# Altium schematic symbol library Silicon Labs.SchLib: 25 symbols
Pins are listed as number, name and electrical type; pins without a type are passive.

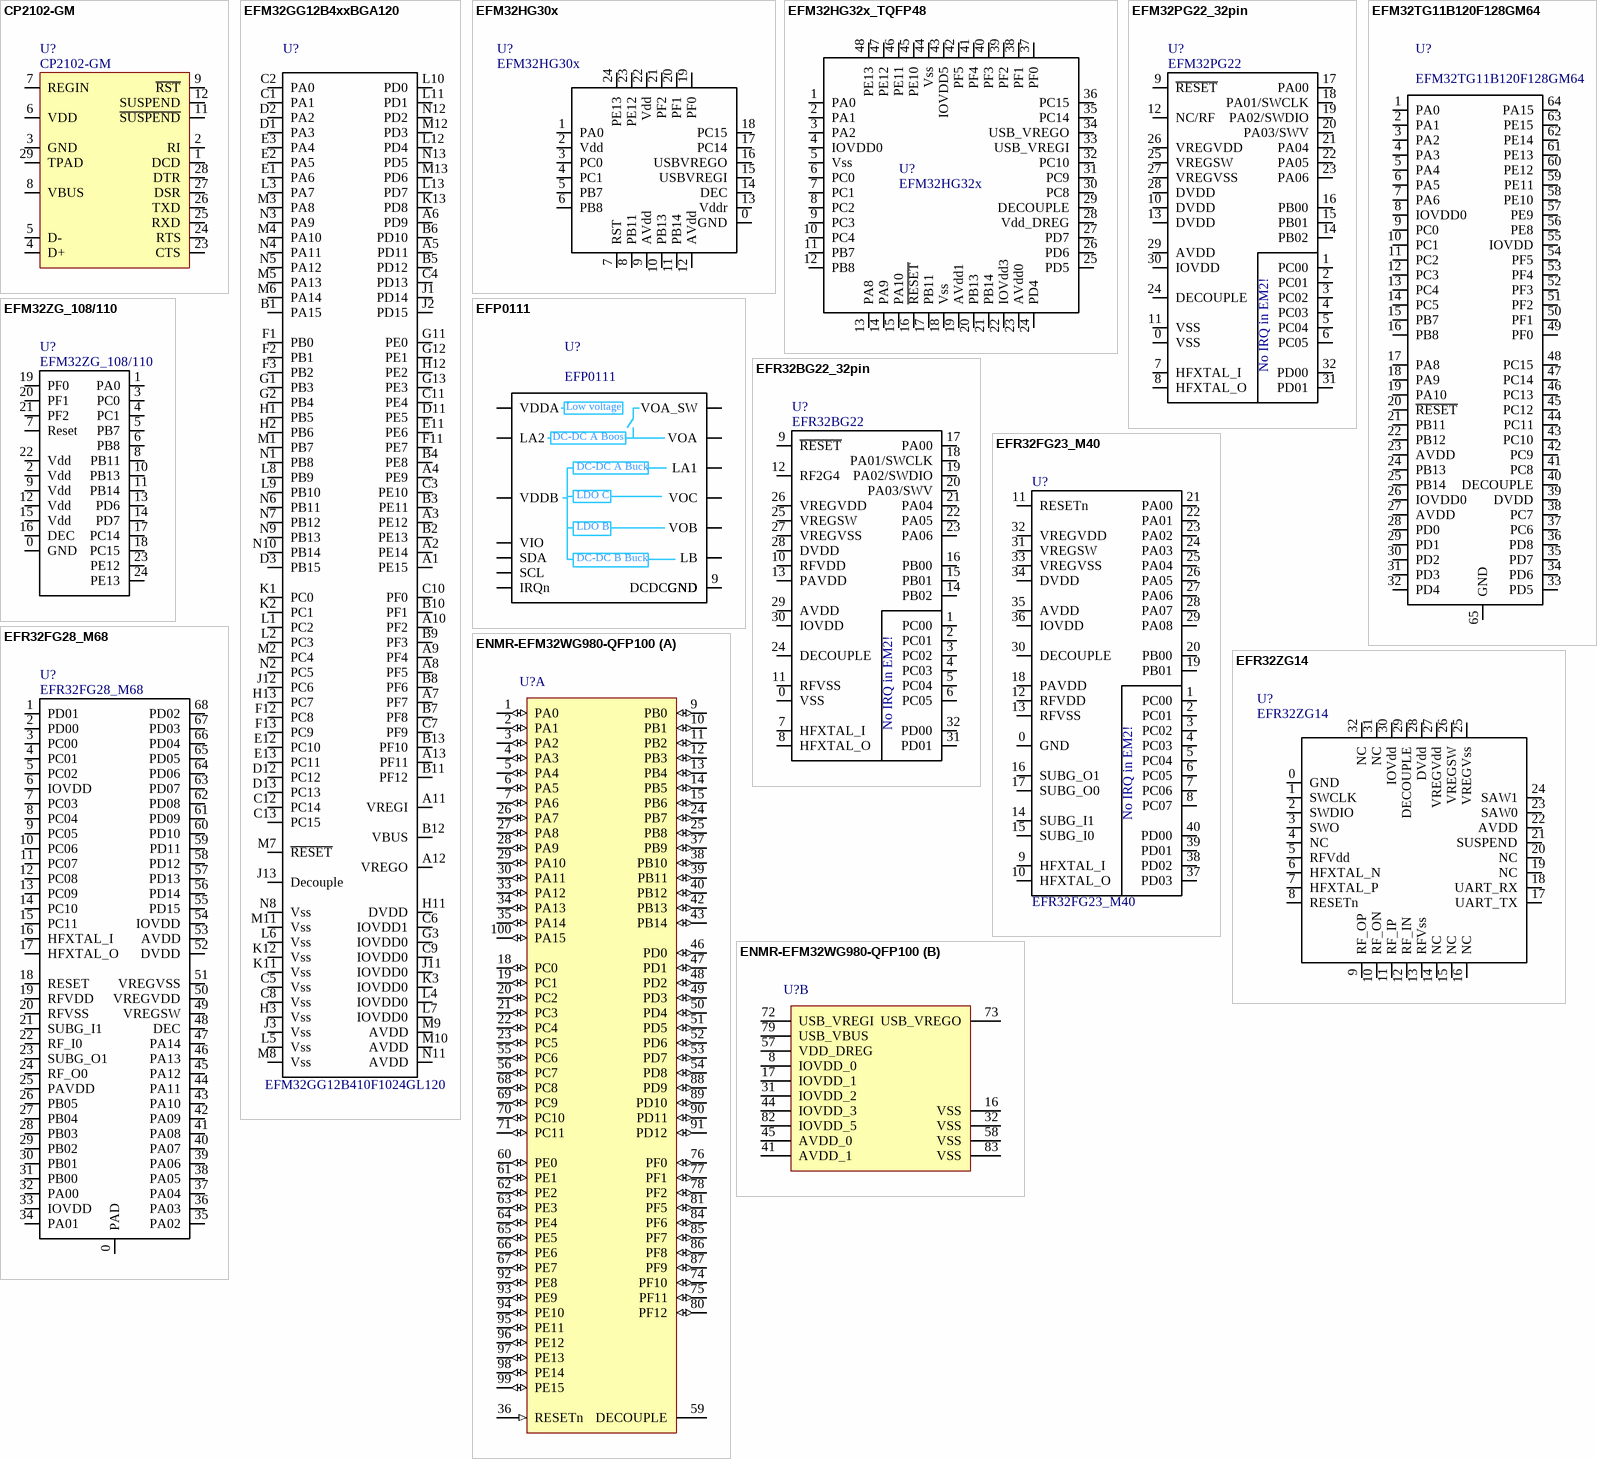
[diagram p0: symbols CP2102-GM to ENMR-EFM32WG980-QFP100]

## CP2102-GM
designator U?
SILICON LABORATORIES - CP2102-GM - USB-TO-UART BRIDGE, 3.6V, MLP-28; Catalog: Farnell; Catalog number: 9282130; Value: CP2102-GM; Price: 1,96
footprint QFN_28_050
pins: 1 DCD, 2 RI, 3 GND, 4 D+, 5 D-, 6 VDD, 7 REGIN, 8 VBUS, 9 ~{RST}, 10 NC hidden, 11 ~{SUSPEND}, 12 SUSPEND, 13 NC hidden, 14 NC hidden, 15 NC hidden, 16 NC hidden, 17 NC hidden, 18 NC hidden, 19 NC hidden, 20 NC hidden, 21 NC hidden, 22 NC hidden, 23 CTS, 24 RTS, 25 RXD, 26 TXD, 27 DSR, 28 DTR, 29 TPAD

## EFM32GG12B4xxBGA120
designator U?, comment Part Number: EFM32GG12B410F1024GL120  (hidden comment: ARM Cortex-M4 microcontroller EFM32GG12B410F1024GL120)
Manufacturer: Silicon Labs; Price 1: 4; Price 100: 4; Price 1000: 4
footprint BGA120
pins: A1 PE15, A2 PE14, A3 PE12, A4 PE9, A5 PD11, A6 PD9, A7 PF7, A8 PF5, A9 PF4, A10 PF2, A11 VREGI, A12 VREGO, A13 PF11, B1 PA15, B2 PE13, B3 PE11, B4 PE8, B5 PD12, B6 PD10, B7 PF8, B8 PF6, B9 PF3, B10 PF1, B11 PF12, B12 VBUS, B13 PF10, C1 PA1, C2 PA0, C3 PE10, C4 PD13, C5 Vss, C6 IOVDD1, C7 PF9, C8 Vss, C9 IOVDD0, C10 PF0, C11 PE4, C12 PC14, C13 PC15, D1 PA3, D2 PA2, D3 PB15, D11 PE5, D12 PC12, D13 PC13, E1 PA6, E2 PA5, E3 PA4, E11 PE6, E12 PC10, E13 PC11, F1 PB0, F2 PB1, F3 PB2, F11 PE7, F12 PC8, F13 PC9, G1 PB3, G2 PB4, G3 IOVDD0, G11 PE0, G12 PE1, G13 PE3, H1 PB5, H2 PB6, H3 Vss, H11 DVDD, H12 PE2, H13 PC7, J1 PD14, J2 PD15, J3 Vss, J11 IOVDD0, J12 PC6, J13 Decouple, K1 PC0, K2 PC1, K3 IOVDD0, K11 Vss, K12 Vss, K13 PD8, L1 PC2, L2 PC3, L3 PA7, L4 IOVDD0, L5 Vss, L6 Vss, L7 IOVDD0, L8 PB9, L9 PB10, L10 PD0, L11 PD1, L12 PD4, L13 PD7, M1 PB7, M2 PC4, M3 PA8, M4 PA10, M5 PA13, M6 PA14, M7 ~{RESET}, M8 Vss, M9 AVDD, M10 AVDD, M11 Vss, M12 PD3, M13 PD6, N1 PB8, N2 PC5, N3 PA9, N4 PA11, N5 PA12, N6 PB11, N7 PB12, N8 Vss, N9 PB13, N10 PB14, N11 AVDD, N12 PD2, N13 PD5

## EFM32HG30x
designator U?, comment value EFM32HG30x  (hidden comment: EFM32HG30x, 32-bit MCU)
Manufacturer: Silicon Labs; Part Number: EFM32HG30x; Price 1: 1.75; Price 100: 1.45; Price 1000: 1.31
footprint SLAB-QFN24-ZG
pins: 0 GND, 1 PA0, 2 Vdd, 3 PC0, 4 PC1, 5 PB7, 6 PB8, 7 RST, 8 PB11, 9 AVdd, 10 PB13, 11 PB14, 12 AVdd, 13 Vddr, 14 DEC, 15 USBVREGI, 16 USBVREGO, 17 PC14, 18 PC15, 19 PF0, 20 PF1, 21 PF2, 22 Vdd, 23 PE12, 24 PE13

## EFM32HG32x_TQFP48
designator U?, comment EFM32HG32x
Manufacturer: Silicon Labs; Part Number: EFM32HG32x
footprint SILABS_TQFP48
pins: 1 PA0, 2 PA1, 3 PA2, 4 IOVDD0, 5 Vss, 6 PC0, 7 PC1, 8 PC2, 9 PC3, 10 PC4, 11 PB7, 12 PB8, 13 PA8, 14 PA9, 15 PA10, 16 ~{RESET}, 17 PB11, 18 Vss, 19 AVdd1, 20 PB13, 21 PB14, 22 IOVdd3, 23 AVdd0, 24 PD4, 25 PD5, 26 PD6, 27 PD7, 28 Vdd_DREG, 29 DECOUPLE, 30 PC8, 31 PC9, 32 PC10, 33 USB_VREGI, 34 USB_VREGO, 35 PC14, 36 PC15, 37 PF0, 38 PF1, 39 PF2, 40 PF3, 41 PF4, 42 PF5, 43 IOVDD5, 44 Vss, 45 PE10, 46 PE11, 47 PE12, 48 PE13

## EFM32PG22_32pin
designator U?, comment EFM32PG22
Manufacturer: Silicon Labs; Part Number: EFM32PG22
footprint QFN32_0.4p
pins: 0 VSS, 1 PC00, 2 PC01, 3 PC02, 4 PC03, 5 PC04, 6 PC05, 7 HFXTAL_I, 8 HFXTAL_O, 9 ~{RESET}, 10 DVDD, 11 VSS, 12 NC/RF, 13 DVDD, 14 PB02, 15 PB01, 16 PB00, 17 PA00, 18 PA01/SWCLK, 19 PA02/SWDIO, 20 PA03/SWV, 21 PA04, 22 PA05, 23 PA06, 24 DECOUPLE, 25 VREGSW, 26 VREGVDD, 27 VREGVSS, 28 DVDD, 29 AVDD, 30 IOVDD, 31 PD01, 32 PD00
text: No IRQ in EM2!

## EFM32TG11B120F128GM64
designator U?
Manufacturer: Silicon Labs; Part Number: EFM32TG11B120F128GM64
footprint SILABS_QFN64_0.25 (QFN, 64-Leads, Body 9x9mm, Pitch 0.5mm, Thermal Pad 7.3x7.3mm)
pins: 1 PA0, 2 PA1, 3 PA2, 4 PA3, 5 PA4, 6 PA5, 7 PA6, 8 IOVDD0, 9 PC0, 10 PC1, 11 PC2, 12 PC3, 13 PC4, 14 PC5, 15 PB7, 16 PB8, 17 PA8, 18 PA9, 19 PA10, 20 ~{RESET}, 21 PB11, 22 PB12, 23 AVDD, 24 PB13, 25 PB14, 26 IOVDD0, 27 AVDD, 28 PD0, 29 PD1, 30 PD2, 31 PD3, 32 PD4, 33 PD5, 34 PD6, 35 PD7, 36 PD8, 37 PC6, 38 PC7, 39 DVDD, 40 DECOUPLE, 41 PC8, 42 PC9, 43 PC10, 44 PC11, 45 PC12, 46 PC13, 47 PC14, 48 PC15, 49 PF0, 50 PF1, 51 PF2, 52 PF3, 53 PF4, 54 PF5, 55 IOVDD, 56 PE8, 57 PE9, 58 PE10, 59 PE11, 60 PE12, 61 PE13, 62 PE14, 63 PE15, 64 PA15, 65 GND

## EFM32ZG_108/110
designator U?
footprint SLAB-QFN24-ZG
pins: 0 GND, 1 PA0, 2 Vdd, 3 PC0, 4 PC1, 5 PB7, 6 PB8, 7 Reset, 8 PB11, 9 Vdd, 10 PB13, 11 PB14, 12 Vdd, 13 PD6, 14 PD7, 15 Vdd, 16 DEC, 17 PC14, 18 PC15, 19 PF0, 20 PF1, 21 PF2, 22 Vdd, 23 PE12, 24 PE13

## EFP0111
designator U?
EFP0111, battery management IC; Manufacturer: Silicon Labs; Part Number: EFP0111GM20-D; Price 1: 0.82; Price 100: 0.69; Price 1000: 0.67
footprint QFN20_EFP0111
pins: 1 GND, 2 GND, 3 VDDA, 4 VOB, 5 LB, 6 GND, 7 LA1, 8 VDDB, 9 DCDCGND, 10 VOA, 11 LA2, 12 VOA_SW, 13 VOC, 14 VIO, 15 SCL, 16 GND, 17 SDA, 18 IRQn, 19 GND, 20 GND, 21 GND
text: Low voltage; DC-DC A Boost; DC-DC A Buck; LDO C; LDO B; DC-DC B Buck

## EFR32BG22_32pin
designator U?, comment EFR32BG22
Manufacturer: Silicon Labs; Part Number: EFR32BG22
footprint QFN32_0.4p
pins: 0 VSS, 1 PC00, 2 PC01, 3 PC02, 4 PC03, 5 PC04, 6 PC05, 7 HFXTAL_I, 8 HFXTAL_O, 9 ~{RESET}, 10 RFVDD, 11 RFVSS, 12 RF2G4, 13 PAVDD, 14 PB02, 15 PB01, 16 PB00, 17 PA00, 18 PA01/SWCLK, 19 PA02/SWDIO, 20 PA03/SWV, 21 PA04, 22 PA05, 23 PA06, 24 DECOUPLE, 25 VREGSW, 26 VREGVDD, 27 VREGVSS, 28 DVDD, 29 AVDD, 30 IOVDD, 31 PD01, 32 PD00
text: No IRQ in EM2!

## EFR32FG23_M40
designator U?, comment Part Number: EFR32FG23_M40  (hidden comment: EFR32FG23_M40 ARM Cortex-M33F + Sub-GHz RF IC)
Manufacturer: Silicon Labs; Price 1: *; Price 100: *; Price 1000: *
footprint SILABS_QFN40_0.4pitch (QFN40, 0.4mm pitch)
pins: 0 GND, 1 PC00, 2 PC01, 3 PC02, 4 PC03, 5 PC04, 6 PC05, 7 PC06, 8 PC07, 9 HFXTAL_I, 10 HFXTAL_O, 11 RESETn, 12 RFVDD, 13 RFVSS, 14 SUBG_I1, 15 SUBG_I0, 16 SUBG_O1, 17 SUBG_O0, 18 PAVDD, 19 PB01, 20 PB00, 21 PA00, 22 PA01, 23 PA02, 24 PA03, 25 PA04, 26 PA05, 27 PA06, 28 PA07, 29 PA08, 30 DECOUPLE, 31 VREGSW, 32 VREGVDD, 33 VREGVSS, 34 DVDD, 35 AVDD, 36 IOVDD, 37 PD03, 38 PD02, 39 PD01, 40 PD00
text: No IRQ in EM2!

## EFR32FG28_M68
designator U?, comment Part Number: EFR32FG28_M68  (hidden comment: EFR32FG28 Sub-GHz Wireless + 2.4 GHz BLE SoC)
Manufacturer: Silicon Labs; Price 1: 10; Price 100: 8; Price 1000: 6
footprint SILABS_QFN68_p0.4 (SILABS QFN68 with 0.4mm pitch)
pins: 0 PAD, 1 PD01, 2 PD00, 3 PC00, 4 PC01, 5 PC02, 6 IOVDD, 7 PC03, 8 PC04, 9 PC05, 10 PC06, 11 PC07, 12 PC08, 13 PC09, 14 PC10, 15 PC11, 16 HFXTAL_I, 17 HFXTAL_O, 18 RESET, 19 RFVDD, 20 RFVSS, 21 SUBG_I1, 22 RF_I0, 23 SUBG_O1, 24 RF_O0, 25 PAVDD, 26 PB05, 27 PB04, 28 PB03, 29 PB02, 30 PB01, 31 PB00, 32 PA00, 33 IOVDD, 34 PA01, 35 PA02, 36 PA03, 37 PA04, 38 PA05, 39 PA06, 40 PA07, 41 PA08, 42 PA09, 43 PA10, 44 PA11, 45 PA12, 46 PA13, 47 PA14, 48 DEC, 49 VREGSW, 50 VREGVDD, 51 VREGVSS, 52 DVDD, 53 AVDD, 54 IOVDD, 55 PD15, 56 PD14, 57 PD13, 58 PD12, 59 PD11, 60 PD10, 61 PD09, 62 PD08, 63 PD07, 64 PD06, 65 PD05, 66 PD04, 67 PD03, 68 PD02

## EFR32ZG14
designator U?
Manufacturer: Silicon Labs; Part Number: EFR32ZG14P231F256GM32
footprint QFN_32_EFR32ZG14 (QFN, 32-Leads, Body 5,0x5,0mm (max), Pitch 0,50mm)
pins: 0 GND, 1 SWCLK, 2 SWDIO, 3 SWO, 4 NC, 5 RFVdd, 6 HFXTAL_N, 7 HFXTAL_P, 8 RESETn, 9 RF_OP, 10 RF_ON, 11 RF_IP, 12 RF_IN, 13 RFVss, 14 NC, 15 NC, 16 NC, 17 UART_TX, 18 UART_RX, 19 NC, 20 NC, 21 SUSPEND, 22 AVDD, 23 SAW0, 24 SAW1, 25 VREGVss, 26 VREGSW, 27 VREGVdd, 28 DVdd, 29 DECOUPLE, 30 IOVdd, 31 NC, 32 NC

## ENMR-EFM32WG980-QFP100
designator U?
footprint ENMR-LQFP100_L (LQFP, 100-Leads, Body 14x14mm, Pitch 0.5mm, IPC High Density)
part A pins: 1 PA0 (io) "LCD_SEG13, EBI_AD09#0/1/2, TIM0_CC0#0/1/4, LEU0_RX#4, I2C0_SDA#0, PRS_CH0#0, GPIO_EM4WU0", 2 PA1 (io) "LCD_SEG14, EBI_AD10#0/1/2, TIM0_CC1#0/1, I2C0_SCL#0, CMU_CLK1#0, PRS_CH1#0", 3 PA2 (io) "LCD_SEG15, EBI_AD11#0/1/2, TIM0_CC2#0/1, CMU_CLK0#0, ETM_TD0#3", 4 PA3 (io) "LCD_SEG16, EBI_AD12#0/1/2, TIM0_CDTI0#0, U0_TX#2, LES_ALTEX2#0, ETM_TD1#3", 5 PA4 (io) "LCD_SEG17, EBI_AD13#0/1/2, TIM0_CDTI1#0, U0_RX#2, LES_ALTEX3#0, ETM_TD2#3", 6 PA5 (io) "LCD_SEG18, EBI_AD14#0/1/2, TIM0_CDTI2#0, LEU1_TX#1, LES_ALTEX4#0, ETM_TD3#3", 7 PA6 (io) "LCD_SEG19, EBI_AD15#0/1/2, LEU1_RX#1, ETM_TCLK#3, GPIO_EM4WU1", 9 PB0 (io) "LCD_SEG32, EBI_A16#0/1/2, TIM1_CC0#2", 10 PB1 (io) "LCD_SEG33, EBI_A17#0/1/2, TIM1_CC1#2", 11 PB2 (io) "LCD_SEG34, EBI_A18#0/1/2, TIM1_CC2#2", 12 PB3 (io) "LCD_SEG20/LCD_COM4, EBI_A19#0/1/2, PCNT1_S0IN#1, US2_TX#1", 13 PB4 (io) "LCD_SEG21/LCD_COM5, EBI_A20#0/1/2, PCNT1_S1IN#1, US2_RX#1", 14 PB5 (io) "LCD_SEG22/LCD_COM6, EBI_A21#0/1/2, US2_CLK#1", 15 PB6 (io) "LCD_SEG23/LCD_COM7, EBI_A22#0/1/2, US2_CS#1", 18 PC0 (io) "DAC0_OUT0ALT#0/OPAMP_OUT0ALT, ACMP0_CH0, EBI_A23#0/1/2, TIM0_CC1#4, PCNT0_S0IN#2, US0_TX#5, US1_TX#0, I2C0_SDA#4, LES_CH0#0, PRS_CH2#0", 19 PC1 (io) "DAC0_OUT0ALT#1/OPAMP_OUT0ALT, ACMP0_CH1, EBI_A24#0/1/2, TIM0_CC2#4, PCNT0_S1IN#2, US0_RX#5, US1_RX#0, I2C0_SCL#4, LES_CH1#0, PRS_CH3#0", 20 PC2 (io) "DAC0_OUT0ALT#2/OPAMP_OUT0ALT, ACMP0_CH2, EBI_A25#0/1/2, TIM0_CDTI0#4, US2_TX#0, LES_CH2#0", 21 PC3 (io) "DAC0_OUT0ALT#3/OPAMP_OUT0ALT, ACMP0_CH3, EBI_NANDREn#0/1/2, TIM0_CDTI1#4, US2_RX#0, LES_CH3#0", 22 PC4 (io) "DAC0_P0#0/OPAMP_P0, ACMP0_CH4, EBI_A26#0/1/2, TIM0_CDTI2#4, LETIM0_OUT0#3, PCNT1_S0IN#0, US2_CLK#0, I2C1_SDA#0, LES_CH4#0", 23 PC5 (io) "DAC0_N0#0/OPAMP_N0, ACMP0_CH5, EBI_NANDWEn#0/1/2, LETIM0_OUT1#3, PCNT1_S1IN#0, US2_CS#0, I2C1_SCL#0, LES_CH5#0", 24 PB7 (io) "LFXTAL_P, TIM1_CC0#3, US0_TX#4, US1_CLK#0", 25 PB8 (io) "LFXTAL_N, TIM1_CC1#3, US0_RX#4, US1_CS#0", 26 PA7 (io) "LCD_SEG35, EBI_CSTFT#0/1/2", 27 PA8 (io) "LCD_SEG36, EBI_DCLK#0/1/2, TIM2_CC0#0", 28 PA9 (io) "LCD_SEG37, EBI_DTEN#0/1/2, TIM2_CC1#0", 29 PA10 (io) "LCD_SEG38, EBI_VSNC#0/1/2, TIM2_CC2#0", 30 PA11 (io) "LCD_SEG39, EBI_HSNC#0/1/2", 33 PA12 (io) "LCD_BCAP_P, EBI_A00#0/1/2, TIM2_CC0#1", 34 PA13 (io) "LCD_BCAP_N, EBI_A01#0/1/2, TIM2_CC1#1", 35 PA14 (io) "LCD_BEXT, EBI_A02#0/1/2, TIM2_CC2#1", 36 RESETn (in) "Reset input. Active low, with internal pull-up.", 37 PB9 (io) "EBI_A03#0/1/2, U1_TX#2", 38 PB10 (io) "EBI_A04#0/1/2, U1_RX#2", 39 PB11 (io) "DAC0_OUT0#0/OPAMP_OUT0, TIM1_CC2#3, LETIM0_OUT0#1, I2C1_SDA#1", 40 PB12 (io) "DAC0_OUT1#0/OPAMP_OUT1, LETIM0_OUT1#1, I2C1_SCL#1", 42 PB13 (io) "HFXTAL_P, US0_CLK#4/5, LEU0_TX#1", 43 PB14 (io) "HFXTAL_N, US0_CS#4/5, LEU0_RX#1", 46 PD0 (io) "ADC0_CH0, DAC0_OUT0ALT#4/OPAMP_OUT0ALT, DAC0_OUT2#1/OPAMP_OUT2, PCNT2_S0IN#0, US1_TX#1", 47 PD1 (io) "ADC0_CH1, DAC0_OUT1ALT#4/OPAMP_OUT1ALT, TIM0_CC0#3, PCNT2_S1IN#0, US1_RX#1, DBG_SWO#2", 48 PD2 (io) "ADC0_CH2, EBI_A27#0/1/2, TIM0_CC1#3, US1_CLK#1, USB_DMPU#0, DBG_SWO#3", 49 PD3 (io) "ADC0_CH3, DAC0_N2#0/OPAMP_N2, TIM0_CC2#3, US1_CS#1, ETM_TD1#0/2", 50 PD4 (io) "ADC0_CH4, DAC0_P2#0/OPAMP_P2, LEU0_TX#0, ETM_TD2#0/2", 51 PD5 (io) "ADC0_CH5, DAC0_OUT2#0/OPAMP_OUT2, LEU0_RX#0, ETM_TD3#0/2", 52 PD6 (io) "ADC0_CH6, DAC0_P1#0/OPAMP_P1, TIM1_CC0#4, LETIM0_OUT0#0, PCNT0_S0IN#3, US1_RX#2, I2C0_SDA#1, LES_ALTEX0#0, ACMP0_O#2, ETM_TD0#0", 53 PD7 (io) "ADC0_CH7, DAC0_N1#0/OPAMP_N1, TIM1_CC1#4, LETIM0_OUT1#0, PCNT0_S1IN#3, US1_TX#2, I2C0_SCL#1, CMU_CLK0#2, LES_ALTEX1#0, ACMP1_O#2, ETM_TCLK#0", 54 PD8 (io) "BU_VIN, CMU_CLK1#1", 55 PC6 (io) "ACMP0_CH6, EBI_A05#0/1/2, LEU1_TX#0, I2C0_SDA#2, LES_CH6#0, ETM_TCLK#2", 56 PC7 (io) "ACMP0_CH7, EBI_A06#0/1/2, LEU1_RX#0, I2C0_SCL#2, LES_CH7#0, ETM_TD0#2", 59 DECOUPLE "Decouple output for on-chip voltage regulator. An external capacitance of size CDECOUPLE is required at this pin.", 60 PE0 (io) "EBI_A07#0/1/2, TIM3_CC0#1, PCNT0_S0IN#1, U0_TX#1, I2C1_SDA#2", 61 PE1 (io) "EBI_A08#0/1/2, TIM3_CC1#1, PCNT0_S1IN#1, U0_RX#1, I2C1_SCL#2", 62 PE2 (io) "BU_VOUT, EBI_A09#0, TIM3_CC2#1, U1_TX#3, ACMP0_O#1", 63 PE3 (io) "BU_STAT, EBI_A10#0, U1_RX#3, ACMP1_O#1", 64 PE4 (io) "LCD_COM0, EBI_A11#0/1/2, US0_CS#1", 65 PE5 (io) "LCD_COM1, EBI_A12#0/1/2, US0_CLK#1", 66 PE6 (io) "LCD_COM2, EBI_A13#0/1/2, US0_RX#1", 67 PE7 (io) "LCD_COM3, EBI_A14#0/1/2, US0_TX#1", 68 PC8 (io) "ACMP1_CH0, EBI_A15#0/1/2, TIM2_CC0#2, US0_CS#2, LES_CH8#0", 69 PC9 (io) "ACMP1_CH1, EBI_A09#1/2, TIM2_CC1#2, US0_CLK#2, LES_CH9#0, GPIO_EM4WU2", 70 PC10 (io) "ACMP1_CH2, EBI_A10#1/2, TIM2_CC2#2, US0_RX#2, LES_CH10#0", 71 PC11 (io) "ACMP1_CH3, EBI_ALE#1/2, US0_TX#2, LES_CH11#0", 74 PF10 (io) "U1_TX#1, USB_DM#0", 75 PF11 (io) "U1_RX#1, USB_DP#0", 76 PF0 (io) "TIM0_CC0#5, LETIM0_OUT0#2, US1_CLK#2, LEU0_TX#3, I2C0_SDA#5, DBG_SWCLK#0/1/2/", 77 PF1 (io) "TIM0_CC1#5, LETIM0_OUT1#2, US1_CS#2, LEU0_RX#3, I2C0_SCL#5, DBG_SWDIO#0/1/2/3, GPIO_EM4WU3", 78 PF2 (io) "LCD_SEG0, EBI_ARDY#0/1/2, TIM0_CC2#5, LEU0_TX#4, ACMP1_O#0, DBG_SWO#0, GPIO_EM4WU4", 80 PF12 (io) "USB_ID#0", 81 PF5 (io) "LCD_SEG3, EBI_REn#0/2, TIM0_CDTI2#2/5, USB_VBUSEN#0, PRS_CH2#1", 84 PF6 (io) "LCD_SEG24, EBI_BL0#0/1/2, TIM0_CC0#2, U0_TX#0", 85 PF7 (io) "LCD_SEG25, EBI_BL1#0/1/2, TIM0_CC1#2, U0_RX#0", 86 PF8 (io) "LCD_SEG26, EBI_WEn#1, TIM0_CC2#2, ETM_TCLK#1", 87 PF9 (io) "LCD_SEG27, EBI_REn#1, ETM_TD0#1", 88 PD9 (io) "LCD_SEG28, EBI_CS0#0/1/2", 89 PD10 (io) "LCD_SEG29, EBI_CS1#0/1/2", 90 PD11 (io) "LCD_SEG30, EBI_CS2#0/1/2", 91 PD12 (io) "LCD_SEG31, EBI_CS3#0/1/2", 92 PE8 (io) "LCD_SEG4, EBI_AD00#0/1/2, PCNT2_S0IN#1, PRS_CH3#1", 93 PE9 (io) "LCD_SEG5, EBI_AD01#0/1/2, PCNT2_S1IN#1", 94 PE10 (io) "LCD_SEG6, EBI_AD02#0/1/2, TIM1_CC0#1, US0_TX#0, BOOTLOADER_TX", 95 PE11 (io) "LCD_SEG7, EBI_AD03#0/1/2, TIM1_CC1#1, US0_RX#0, LES_ALTEX5#0, BOOTLOADER_RX", 96 PE12 (io) "LCD_SEG8, EBI_AD04#0/1/2, TIM1_CC2#1, US0_RX#3, US0_CLK#0, I2C0_SDA#6, CMU_CLK1#2, LES_ALTEX6#0", 97 PE13 (io) "LCD_SEG9, EBI_AD05#0/1/2, US0_TX#3, US0_CS#0, I2C0_SCL#6, LES_ALTEX7#0, ACMP0_O#0, GPIO_EM4WU5", 98 PE14 (io) "LCD_SEG10, EBI_AD06#0/1/2, TIM3_CC0#0, LEU0_TX#2", 99 PE15 (io) "LCD_SEG11, EBI_AD07#0/1/2, TIM3_CC1#0, LEU0_RX#2", 100 PA15 (io) "LCD_SEG12, EBI_AD08#0/1/2, TIM3_CC2#0"
part B pins: 8 IOVDD_0 (power) "Digital IO power supply 0.", 16 VSS (power) "Ground", 17 IOVDD_1 (power) "Digital IO power supply 1.", 31 IOVDD_2 (power) "Digital IO power supply 2.", 32 VSS (power) "Ground", 41 AVDD_1 (power) "Analog power supply 1 .", 44 IOVDD_3 (power) "Digital IO power supply 3.", 45 AVDD_0 (power) "Analog power supply 0.", 57 VDD_DREG (power) "Power supply for on-chip voltage regulator.", 58 VSS (power) "Ground", 72 USB_VREGI (power) "USB Input to internal 3.3 V regulator.", 73 USB_VREGO "USB Decoupling for internal 3.3 V USB regulator and regulator output.", 79 USB_VBUS (power) "USB 5.0 V VBUS input.", 82 IOVDD_5 (power) "Digital IO power supply 5.", 83 VSS (power) "Ground"

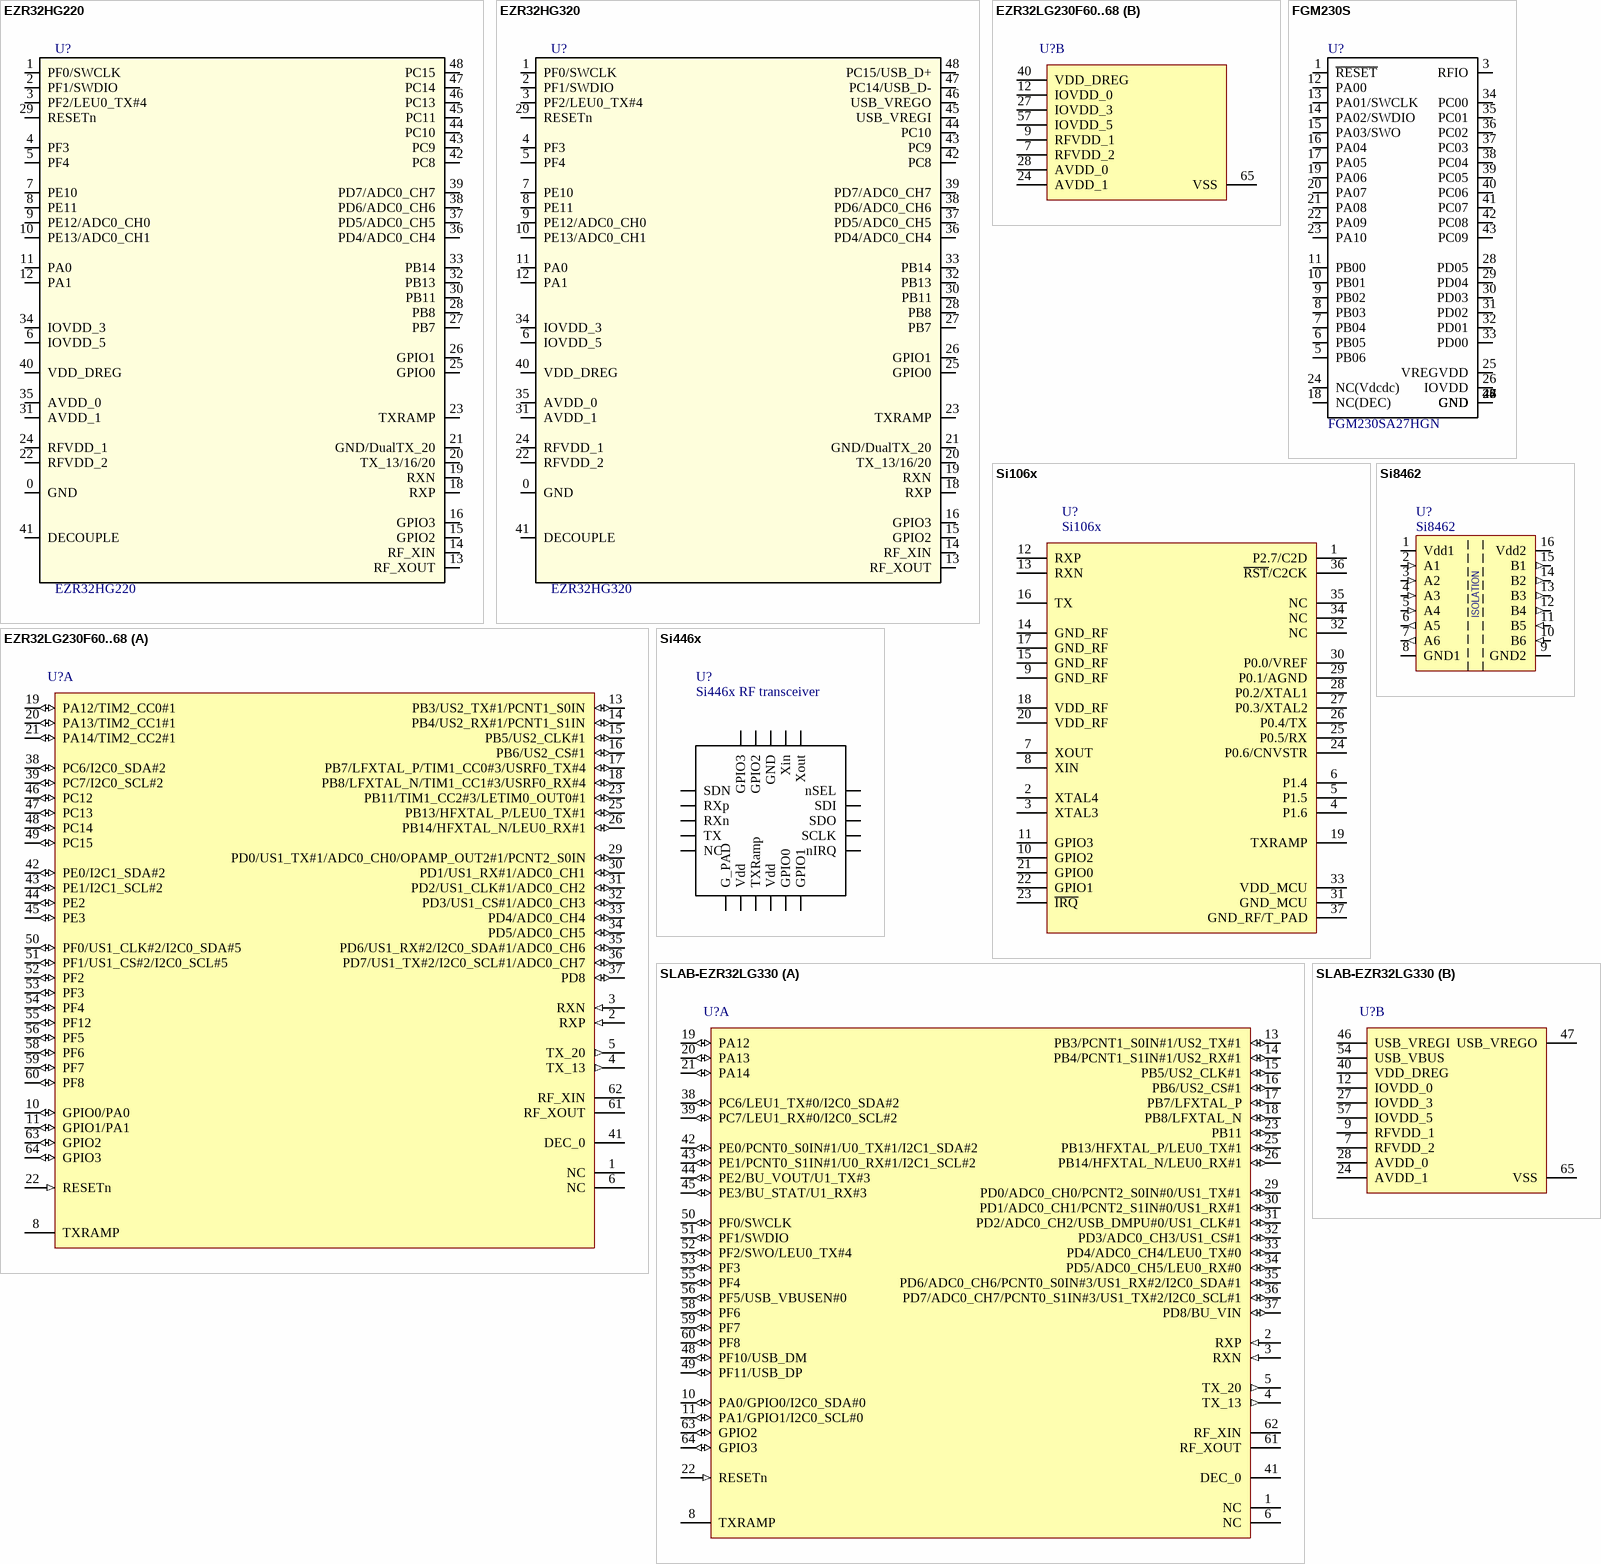
[diagram p1: symbols EZR32HG220 to SLAB-EZR32LG330]

## EZR32HG220
designator U?
footprint SILABS_QFN48_0.2
pins: 0 GND, 1 PF0/SWCLK, 2 PF1/SWDIO, 3 PF2/LEU0_TX#4, 4 PF3, 5 PF4, 6 IOVDD_5, 7 PE10, 8 PE11, 9 PE12/ADC0_CH0, 10 PE13/ADC0_CH1, 11 PA0, 12 PA1, 13 RF_XOUT, 14 RF_XIN, 15 GPIO2, 16 GPIO3, 17 DNC hidden, 18 RXP, 19 RXN, 20 TX_13/16/20, 21 GND/DualTX_20, 22 RFVDD_2, 23 TXRAMP, 24 RFVDD_1, 25 GPIO0, 26 GPIO1, 27 PB7, 28 PB8, 29 RESETn, 30 PB11, 31 AVDD_1, 32 PB13, 33 PB14, 34 IOVDD_3, 35 AVDD_0, 36 PD4/ADC0_CH4, 37 PD5/ADC0_CH5, 38 PD6/ADC0_CH6, 39 PD7/ADC0_CH7, 40 VDD_DREG, 41 DECOUPLE, 42 PC8, 43 PC9, 44 PC10, 45 PC11, 46 PC13, 47 PC14, 48 PC15

## EZR32HG320
designator U?
footprint SILABS_QFN48_0.2
pins: 0 GND, 1 PF0/SWCLK, 2 PF1/SWDIO, 3 PF2/LEU0_TX#4, 4 PF3, 5 PF4, 6 IOVDD_5, 7 PE10, 8 PE11, 9 PE12/ADC0_CH0, 10 PE13/ADC0_CH1, 11 PA0, 12 PA1, 13 RF_XOUT, 14 RF_XIN, 15 GPIO2, 16 GPIO3, 17 DNC hidden, 18 RXP, 19 RXN, 20 TX_13/16/20, 21 GND/DualTX_20, 22 RFVDD_2, 23 TXRAMP, 24 RFVDD_1, 25 GPIO0, 26 GPIO1, 27 PB7, 28 PB8, 29 RESETn, 30 PB11, 31 AVDD_1, 32 PB13, 33 PB14, 34 IOVDD_3, 35 AVDD_0, 36 PD4/ADC0_CH4, 37 PD5/ADC0_CH5, 38 PD6/ADC0_CH6, 39 PD7/ADC0_CH7, 40 VDD_DREG, 41 DECOUPLE, 42 PC8, 43 PC9, 44 PC10, 45 USB_VREGI, 46 USB_VREGO, 47 PC14/USB_D-, 48 PC15/USB_D+

## EZR32LG230F60..68
designator U?
footprint SLAB-QFN-64_V - MODIFIED (QFN, 64-Leads, Body 9.1x9.1mm, Pitch 0.5mm, Thermal Pad 7.55x7.55mm)
part A pins: 1 NC "No connect.", 2 RXP (in) "Differential RF Input Pin of the LNA. See application schematic for example matching network.", 3 RXN (in) "Differential RF Input Pin of the LNA. See application schematic for example matching network.", 4 TX_13 (out) "Transmit Output Pin (+13 dBm or +16 dBm) for R55, R60, R61, R67 and R69 variants. The PA output is an open-drain connection, so the L-C match must supply VDD (+3.3 VDC nominal) to this pin. Pin is DNC on the +20 dBm parts.", 5 TX_20 (out) "Transmit Output Pin (+20 dBm) for R63, R68 and R69 variants. The PA output is an open-drain connection,so the L-C match must supply VDD (+3.3 VDC nominal) to this pin. Pin is DNC on the +13 dBm parts.", 6 NC "No connect.", 8 TXRAMP "Programmable Bias Output with Ramp Capability for External FET PA.", 10 GPIO0/PA0 (io), 11 GPIO1/PA1 (io), 13 PB3/US2_TX#1/PCNT1_S0IN (io), 14 PB4/US2_RX#1/PCNT1_S1IN (io), 15 PB5/US2_CLK#1 (io), 16 PB6/US2_CS#1 (io), 17 PB7/LFXTAL_P/TIM1_CC0#3/USRF0_TX#4 (io), 18 PB8/LFXTAL_N/TIM1_CC1#3/USRF0_RX#4 (io), 19 PA12/TIM2_CC0#1 (io), 20 PA13/TIM2_CC1#1 (io), 21 PA14/TIM2_CC2#1 (io), 22 RESETn (in) "Reset input, active low.To apply an external reset source to this pin, it is required to only drive this pin low during reset, and let the internal pull-up ensure that reset is released.", 23 PB11/TIM1_CC2#3/LETIM0_OUT0#1 (io), 25 PB13/HFXTAL_P/LEU0_TX#1 (io), 26 PB14/HFXTAL_N/LEU0_RX#1 (io), 29 PD0/US1_TX#1/ADC0_CH0/OPAMP_OUT2#1/PCNT2_S0IN (io), 30 PD1/US1_RX#1/ADC0_CH1 (io), 31 PD2/US1_CLK#1/ADC0_CH2 (io), 32 PD3/US1_CS#1/ADC0_CH3 (io), 33 PD4/ADC0_CH4 (io), 34 PD5/ADC0_CH5 (io), 35 PD6/US1_RX#2/I2C0_SDA#1/ADC0_CH6 (io), 36 PD7/US1_TX#2/I2C0_SCL#1/ADC0_CH7 (io), 37 PD8 (io), 38 PC6/I2C0_SDA#2 (io), 39 PC7/I2C0_SCL#2 (io), 41 DEC_0 (power) "Decouple output for on-chip voltage regulator.", 42 PE0/I2C1_SDA#2 (io), 43 PE1/I2C1_SCL#2 (io), 44 PE2 (io), 45 PE3 (io), 46 PC12 (io), 47 PC13 (io), 48 PC14 (io), 49 PC15 (io), 50 PF0/US1_CLK#2/I2C0_SDA#5 (io), 51 PF1/US1_CS#2/I2C0_SCL#5 (io), 52 PF2 (io), 53 PF3 (io), 54 PF4 (io), 55 PF12 (io), 56 PF5 (io), 58 PF6 (io), 59 PF7 (io), 60 PF8 (io), 61 RF_XOUT "EZRadio peripheral crystal oscillator output. Connect to an external 26/30 MHz crystal or to an external clock source. If using an external clock source with no crystal, dc coupling with a nominal 0.8 VDC level is recommended with a minimum ac amplitude of 700 mVpp. Refer to AN417 for more details about using an external clock source.", 62 RF_XIN "EZRadio peripheral crystal oscillator input. Connect to an external 26/30 MHz crystal or leave floating if driving the XOUT pin with an external signal source.", 63 GPIO2 (io) "General Purpose Digital I/O for the radio. May be configured to perform various EZRadio functions, including Clock Output, FIFO Status, POR, Wake-up Timer, TRSW, AntDiversity control, etc.", 64 GPIO3 (io) "General Purpose Digital I/O for the radio. May be configured to perform various EZRadio functions, including Clock Output, FIFO Status, POR, Wake-up Timer, TRSW, AntDiversity control, etc."
part B pins: 7 RFVDD_2 (power) "+1.8 to +3.6 V Supply Voltage Input to Internal Regulators for the Radio. The recommended VDD supply voltage is +3.3 V.", 9 RFVDD_1 (power) "+1.8 to +3.6 V Supply Voltage Input to Internal Regulators for the Radio. The recommended VDD supply voltage is +3.3 V.", 12 IOVDD_0 (power) "Digital IO power supply 0.", 24 AVDD_1 (power) "Analog power supply 1.", 27 IOVDD_3 (power) "Digital IO power supply 3.", 28 AVDD_0 (power) "Analog power supply 0.", 40 VDD_DREG (power) "Power supply for on-chip voltage regulator.", 57 IOVDD_5 (power) "Digital IO power supply 5.", 65 VSS (power) "Ground."

## FGM230S
designator U?, comment Part Number: FGM230SA27HGN  (hidden comment: FGM230 Sub-GHz Wireless SiP Module)
Manufacturer: Silicon Labs; Price 1: 6.13; Price 100: 5.1; Price 1000: 4.86
footprint FGM230S
pins: 1 ~{RESET}, 2 GND, 3 RFIO, 4 GND, 5 PB06, 6 PB05, 7 PB04, 8 PB03, 9 PB02, 10 PB01, 11 PB00, 12 PA00, 13 PA01/SWCLK, 14 PA02/SWDIO, 15 PA03/SWO, 16 PA04, 17 PA05, 18 NC(DEC), 19 PA06, 20 PA07, 21 PA08, 22 PA09, 23 PA10, 24 NC(Vdcdc), 25 VREGVDD, 26 IOVDD, 27 GND, 28 PD05, 29 PD04, 30 PD03, 31 PD02, 32 PD01, 33 PD00, 34 PC00, 35 PC01, 36 PC02, 37 PC03, 38 PC04, 39 PC05, 40 PC06, 41 PC07, 42 PC08, 43 PC09, 44 GND, 45 GND, 46 GND, 47 GND, 48 GND

## Si106x
designator U?
Ultra-Low Power MCU with Integrated High-Performance  Sub-1 GHz Transceiver; Value: Si1060; Price: *; Catalog: *; Catalog number: *
footprint QFN 36 pins 0.5p  (2x8 & 2x10) (QFN, 36-Leads, Body 6,00x5,00mm, Pitch 0,50mm, Thermal Pad 3,65x4,15mm, IPC Medium Density)
pins: 1 P2.7/C2D, 2 XTAL4, 3 XTAL3, 4 P1.6, 5 P1.5, 6 P1.4, 7 XOUT, 8 XIN, 9 GND_RF, 10 GPIO2, 11 GPIO3, 12 RXP, 13 RXN, 14 GND_RF, 15 GND_RF, 16 TX, 17 GND_RF, 18 VDD_RF, 19 TXRAMP, 20 VDD_RF, 21 GPIO0, 22 GPIO1, 23 ~{IRQ}, 24 P0.6/CNVSTR, 25 P0.5/RX, 26 P0.4/TX, 27 P0.3/XTAL2, 28 P0.2/XTAL1, 29 P0.1/AGND, 30 P0.0/VREF, 31 GND_MCU, 32 NC, 33 VDD_MCU, 34 NC, 35 NC, 36 ~{RST}/C2CK, 37 GND_RF/T_PAD

## Si446x
designator U?, comment Si446x RF transceiver
Manufacturer: Silicon Labs; Part Number: Si446x
footprint SILABS_QFN20_0.25
pins: 0 G_PAD, 1 SDN, 2 RXp, 3 RXn, 4 TX, 5 NC, 6 Vdd, 7 TXRamp, 8 Vdd, 9 GPIO0, 10 GPIO1, 11 nIRQ, 12 SCLK, 13 SDO, 14 SDI, 15 nSEL, 16 Xout, 17 Xin, 18 GND, 19 GPIO2, 20 GPIO3

## Si8462
designator U?
Value: Si8462; Price: *; Catalog: *; Catalog number: *
footprint SO-16 1.27p
pins: 1 Vdd1 (power), 2 A1 (in), 3 A2 (in), 4 A3 (in), 5 A4 (in), 6 A5 (out), 7 A6 (out), 8 GND1 (power), 9 GND2 (power), 10 B6 (in), 11 B5 (in), 12 B4 (out), 13 B3 (out), 14 B2 (out), 15 B1 (out), 16 Vdd2 (power)
text: ISOLATION

## SLAB-EZR32LG330
designator U?
footprint SLAB-QFN-64_V - MODIFIED (QFN, 64-Leads, Body 9.1x9.1mm, Pitch 0.5mm, Thermal Pad 7.55x7.55mm)
part A pins: 1 NC "No connect.", 2 RXP (in) "Differential RF Input Pin of the LNA. See application schematic for example matching network.", 3 RXN (in) "Differential RF Input Pin of the LNA. See application schematic for example matching network.", 4 TX_13 (out) "Transmit Output Pin (+13 dBm or +16 dBm) for R55, R60, R61, R67 and R69 variants. The PA output is an open-drain connection, so the L-C match must supply VDD (+3.3 VDC nominal) to this pin. Pin is DNC on the +20 dBm parts.", 5 TX_20 (out) "Transmit Output Pin (+20 dBm) for R63, R68 and R69 variants. The PA output is an open-drain connection,so the L-C match must supply VDD (+3.3 VDC nominal) to this pin. Pin is DNC on the +13 dBm parts.", 6 NC "No connect.", 8 TXRAMP "Programmable Bias Output with Ramp Capability for External FET PA.", 10 PA0/GPIO0/I2C0_SDA#0 (io), 11 PA1/GPIO1/I2C0_SCL#0 (io), 13 PB3/PCNT1_S0IN#1/US2_TX#1 (io), 14 PB4/PCNT1_S1IN#1/US2_RX#1 (io), 15 PB5/US2_CLK#1 (io), 16 PB6/US2_CS#1 (io), 17 PB7/LFXTAL_P (io), 18 PB8/LFXTAL_N (io), 19 PA12 (io), 20 PA13 (io), 21 PA14 (io), 22 RESETn (in) "Reset input, active low.To apply an external reset source to this pin, it is required to only drive this pin low during reset, and let the internal pull-up ensure that reset is released.", 23 PB11 (io), 25 PB13/HFXTAL_P/LEU0_TX#1 (io), 26 PB14/HFXTAL_N/LEU0_RX#1 (io), 29 PD0/ADC0_CH0/PCNT2_S0IN#0/US1_TX#1 (io), 30 PD1/ADC0_CH1/PCNT2_S1IN#0/US1_RX#1 (io), 31 PD2/ADC0_CH2/USB_DMPU#0/US1_CLK#1 (io), 32 PD3/ADC0_CH3/US1_CS#1 (io), 33 PD4/ADC0_CH4/LEU0_TX#0 (io), 34 PD5/ADC0_CH5/LEU0_RX#0 (io), 35 PD6/ADC0_CH6/PCNT0_S0IN#3/US1_RX#2/I2C0_SDA#1 (io), 36 PD7/ADC0_CH7/PCNT0_S1IN#3/US1_TX#2/I2C0_SCL#1 (io), 37 PD8/BU_VIN (io), 38 PC6/LEU1_TX#0/I2C0_SDA#2 (io), 39 PC7/LEU1_RX#0/I2C0_SCL#2 (io), 41 DEC_0 (power) "Decouple output for on-chip voltage regulator.", 42 PE0/PCNT0_S0IN#1/U0_TX#1/I2C1_SDA#2 (io), 43 PE1/PCNT0_S1IN#1/U0_RX#1/I2C1_SCL#2 (io), 44 PE2/BU_VOUT/U1_TX#3 (io), 45 PE3/BU_STAT/U1_RX#3 (io), 48 PF10/USB_DM (io), 49 PF11/USB_DP (io), 50 PF0/SWCLK (io), 51 PF1/SWDIO (io), 52 PF2/SWO/LEU0_TX#4 (io), 53 PF3 (io), 55 PF4 (io), 56 PF5/USB_VBUSEN#0 (io), 58 PF6 (io), 59 PF7 (io), 60 PF8 (io), 61 RF_XOUT "EZRadio peripheral crystal oscillator output. Connect to an external 26/30 MHz crystal or to an external clock source. If using an external clock source with no crystal, dc coupling with a nominal 0.8 VDC level is recommended with a minimum ac amplitude of 700 mVpp. Refer to AN417 for more details about using an external clock source.", 62 RF_XIN "EZRadio peripheral crystal oscillator input. Connect to an external 26/30 MHz crystal or leave floating if driving the XOUT pin with an external signal source.", 63 GPIO2 (io) "General Purpose Digital I/O for the radio. May be configured to perform various EZRadio functions, including Clock Output, FIFO Status, POR, Wake-up Timer, TRSW, AntDiversity control, etc.", 64 GPIO3 (io) "General Purpose Digital I/O for the radio. May be configured to perform various EZRadio functions, including Clock Output, FIFO Status, POR, Wake-up Timer, TRSW, AntDiversity control, etc."
part B pins: 7 RFVDD_2 (power) "+1.8 to +3.6 V Supply Voltage Input to Internal Regulators for the Radio. The recommended VDD supply voltage is +3.3 V.", 9 RFVDD_1 (power) "+1.8 to +3.6 V Supply Voltage Input to Internal Regulators for the Radio. The recommended VDD supply voltage is +3.3 V.", 12 IOVDD_0 (power) "Digital IO power supply 0.", 24 AVDD_1 (power) "Analog power supply 1.", 27 IOVDD_3 (power) "Digital IO power supply 3.", 28 AVDD_0 (power) "Analog power supply 0.", 40 VDD_DREG (power) "Power supply for on-chip voltage regulator.", 46 USB_VREGI (power), 47 USB_VREGO (power), 54 USB_VBUS (power) "USB 5.0 V VBUS input.", 57 IOVDD_5 (power) "Digital IO power supply 5.", 65 VSS (power) "Ground."

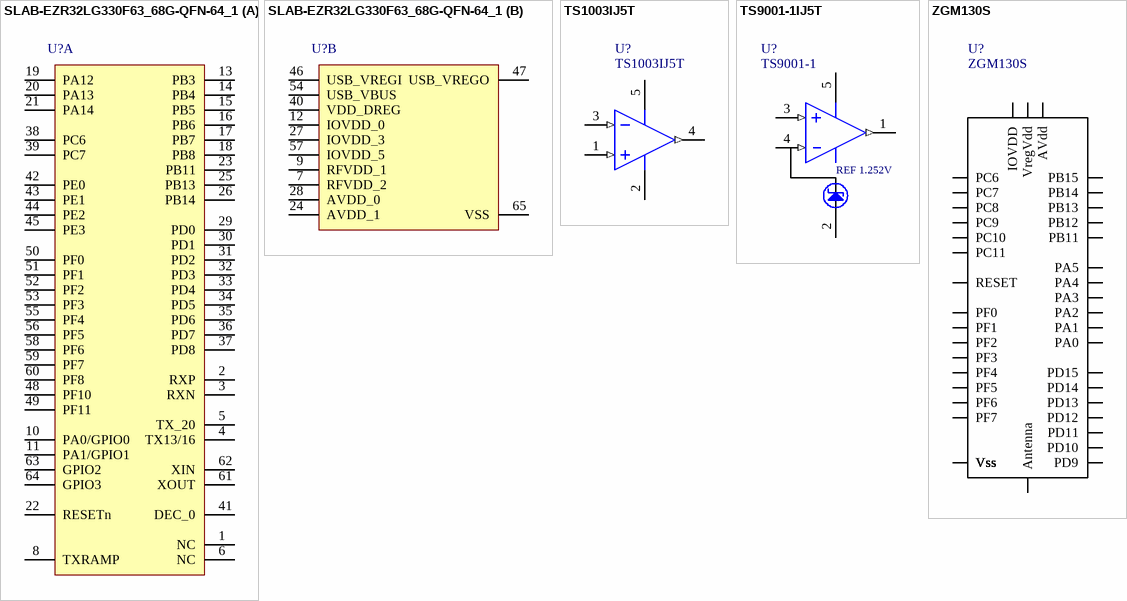
[diagram p2: symbols SLAB-EZR32LG330F63_68G-QFN-64_1 to ZGM130S]

## SLAB-EZR32LG330F63_68G-QFN-64_1
designator U?
footprint SLAB-QFN-64_V - MODIFIED (QFN, 64-Leads, Body 9.1x9.1mm, Pitch 0.5mm, Thermal Pad 7.55x7.55mm)
part A pins: 1 NC "No connect.", 2 RXP "Differential RF Input Pin of the LNA. See application schematic for example matching network.", 3 RXN "Differential RF Input Pin of the LNA. See application schematic for example matching network.", 4 TX13/16 "Transmit Output Pin (+13 dBm or +16 dBm) for R55, R60, R61, R67 and R69 variants. The PA output is an open-drain connection, so the L-C match must supply VDD (+3.3 VDC nominal) to this pin. Pin is DNC on the +20 dBm parts.", 5 TX_20 "Transmit Output Pin (+20 dBm) for R63, R68 and R69 variants. The PA output is an open-drain connection,so the L-C match must supply VDD (+3.3 VDC nominal) to this pin. Pin is DNC on the +13 dBm parts.", 6 NC "No connect.", 8 TXRAMP "Programmable Bias Output with Ramp Capability for External FET PA.", 10 PA0/GPIO0, 11 PA1/GPIO1, 13 PB3, 14 PB4, 15 PB5, 16 PB6, 17 PB7, 18 PB8, 19 PA12, 20 PA13, 21 PA14, 22 RESETn "Reset input, active low.To apply an external reset source to this pin, it is required to only drive this pin low during reset, and let the internal pull-up ensure that reset is released.", 23 PB11, 25 PB13, 26 PB14, 29 PD0, 30 PD1, 31 PD2, 32 PD3, 33 PD4, 34 PD5, 35 PD6, 36 PD7, 37 PD8, 38 PC6, 39 PC7, 41 DEC_0 "Decouple output for on-chip voltage regulator.", 42 PE0, 43 PE1, 44 PE2, 45 PE3, 48 PF10, 49 PF11, 50 PF0, 51 PF1, 52 PF2, 53 PF3, 55 PF4, 56 PF5, 58 PF6, 59 PF7, 60 PF8, 61 XOUT "EZRadio peripheral crystal oscillator output. Connect to an external 26/30 MHz crystal or to an external clock source. If using an external clock source with no crystal, dc coupling with a nominal 0.8 VDC level is recommended with a minimum ac amplitude of 700 mVpp. Refer to AN417 for more details about using an external clock source.", 62 XIN "EZRadio peripheral crystal oscillator input. Connect to an external 26/30 MHz crystal or leave floating if driving the XOUT pin with an external signal source.", 63 GPIO2 "General Purpose Digital I/O for the radio. May be configured to perform various EZRadio functions, including Clock Output, FIFO Status, POR, Wake-up Timer, TRSW, AntDiversity control, etc.", 64 GPIO3 "General Purpose Digital I/O for the radio. May be configured to perform various EZRadio functions, including Clock Output, FIFO Status, POR, Wake-up Timer, TRSW, AntDiversity control, etc."
part B pins: 7 RFVDD_2 "+1.8 to +3.6 V Supply Voltage Input to Internal Regulators for the Radio. The recommended VDD supply voltage is +3.3 V.", 9 RFVDD_1 "+1.8 to +3.6 V Supply Voltage Input to Internal Regulators for the Radio. The recommended VDD supply voltage is +3.3 V.", 12 IOVDD_0 "Digital IO power supply 0.", 24 AVDD_1 "Analog power supply 1.", 27 IOVDD_3 "Digital IO power supply 3.", 28 AVDD_0 "Analog power supply 0.", 40 VDD_DREG "Power supply for on-chip voltage regulator.", 46 USB_VREGI, 47 USB_VREGO, 54 USB_VBUS "USB 5.0 V VBUS input.", 57 IOVDD_5 "Digital IO power supply 5.", 65 VSS "Ground."

## TS1003IJ5T
designator U?
SILICON LABS  TS1003IJ5T  OP AMP, 4KHZ, 1500V/US, 800UV, SC70-5; Catalog: Farnell; Catalog number: 2373805; Value: TS1003IJ5T; Catalog page: *; Price: 0,44
footprint SOT23-5BL (SOT23, 5-Leads, Body 2.9x1.6mm, Pitch 0.95mm, Lead Span 2.8mm, IPC High Density)
pins: 1 +IN (in), 2 -VS (power), 3 -IN (in), 4 OUT (out), 5 +VS (power)

## TS9001-1IJ5T
designator U?, comment TS9001-1
SILICON LABS  TS9001-1IJ5T  IC, NANOPOWER COMPARATOR, SC70-5; Catalog number: 2373826; Price: 1,00; Value: TS9001-1IJ5T
footprint SOT353-5L (SOT353, 5-Leads, Body 2x1.3mm, Pitch 0.65mm, Lead Span 2.1mm, IPC High Density)
pins: 1 OUT (out), 2 -VS (power), 3 +IN (REF) (in), 4 -IN (in), 5 +VS (power)
text: REF 1.252V

## ZGM130S
designator U?
Z-Wave SiP; Manufacturer: Silicon Labs; Part Number: ZGM130S
footprint ZGM130S_0.25
pins: 1 Vss, 2 PF0, 3 PF1, 4 PF2, 5 PF3, 6 PF4, 7 PF5, 8 PF6, 9 PF7, 10 Vss, 11 Vss, 12 Vss, 13 Vss, 14 Vss, 15 RESET, 16 Vss, 17 Vss, 18 Vss, 19 Vss, 20 Vss, 21 Vss, 22 Vss, 23 Antenna, 24 Vss, 25 Vss, 26 PD9, 27 PD10, 28 PD11, 29 PD12, 30 PD13, 31 PD14, 32 Vss, 33 Vss, 34 PD15, 35 PA0, 36 PA1, 37 PA2, 38 PA3, 39 PA4, 40 PA5, 41 PB11, 42 PB12, 43 Vss, 44 AVdd, 45 PB13, 46 PB14, 47 PB15, 48 Vss, 49 Vss, 50 1V8 hidden, 51 Vss, 52 VregVdd, 53 Vss, 54 Vss, 55 Vss, 56 DECOUPLE hidden, 57 IOVDD, 58 PC6, 59 PC7, 60 PC8, 61 PC9, 62 PC10, 63 PC11, 64 Vss